# Altium integrated library Atmel Security Smart Card.IntLib: 140 symbols (part 1 of 4)
Pins are listed as number, name and electrical type; pins without a type are passive.

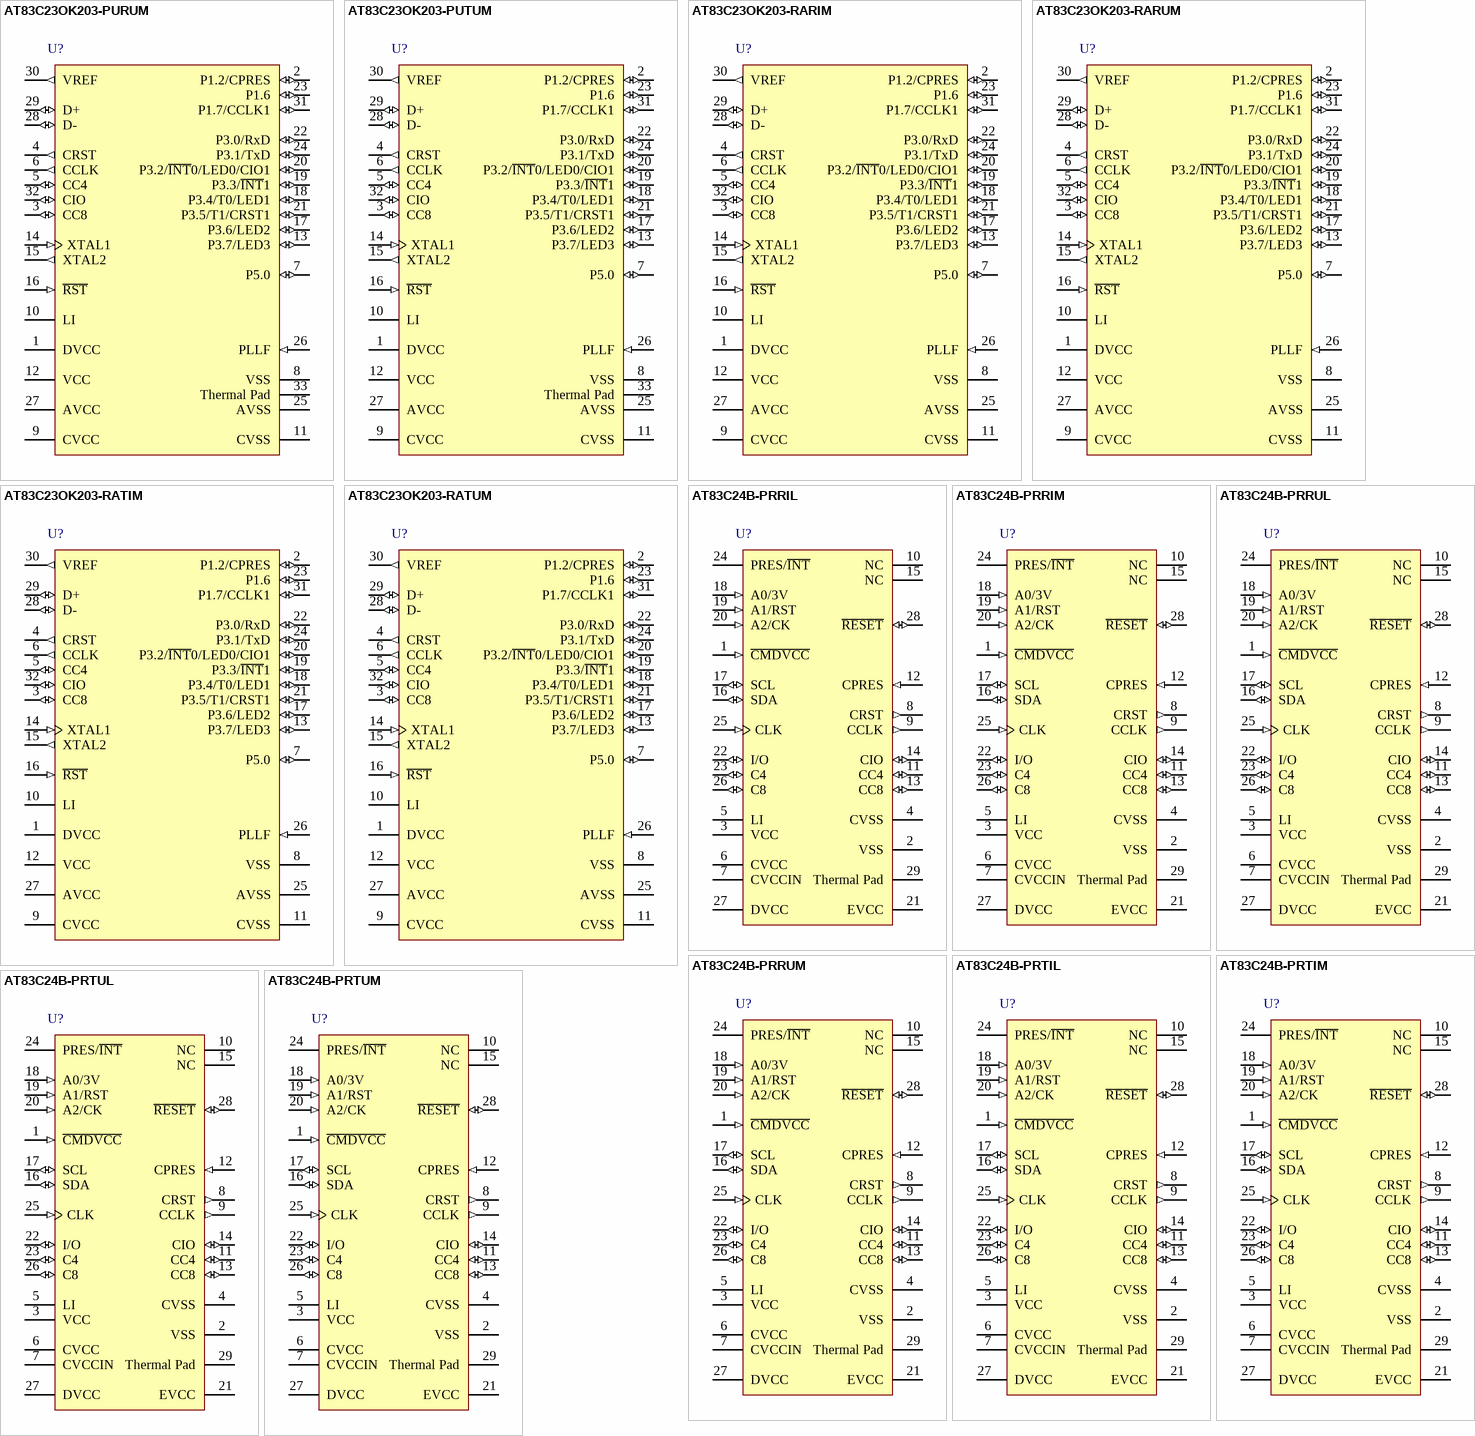
[diagram p0: symbols AT83C23OK203-PURUM to AT83C24B-PRTUM]

## AT83C23OK203-PURUM
designator U?
CardMan® Smart@Link Smart Card Interface, 32-Pin QFN Pkg, Industrial, Tape and Reel, Pb-Free; DatasheetVersion: revC, Mar-2007; PackageVersion: 26/10/2011; PackageReference: QFN32; PackageDescription: 32-Pin Quad Flat No-Lead, 7 x 7 mm Body, 0.65 mm Pitch; Code_JEDEC: MO-220VKKC; Code_IPC: QFN65P700X700-32V; ComponentLink1Description: Manufacturer URL; ComponentLink1URL: http://www.atmel.com/; ComponentLink2Description: Datasheet; ComponentLink2URL: http://www.atmel.com/dyn/resources/prod_documents/AT83C230K.pdf
footprint QFN32_N (QFN, 32-Leads, Body 7x7mm, Pitch 0.65mm, Thermal Pad 5.3x5.3mm, IPC Medium Density)
footprint QFN32_L (QFN, 32-Leads, Body 7x7mm, Pitch 0.65mm, Thermal Pad 5.3x5.3mm, IPC High Density)
footprint QFN32_M (QFN, 32-Leads, Body 7x7mm, Pitch 0.65mm, Thermal Pad 5.3x5.3mm, IPC Low Density)
pins: 1 DVCC (power), 2 P1.2/CPRES (io), 3 CC8 (io), 4 CRST (out), 5 CC4 (io), 6 CCLK (out), 7 P5.0 (io), 8 VSS (power), 9 CVCC (power), 10 LI (power), 11 CVSS (power), 12 VCC (power), 13 P3.7/LED3 (io), 14 XTAL1 (in), 15 XTAL2 (out), 16 ~{RST} (in), 17 P3.6/LED2 (io), 18 P3.4/T0/LED1 (io), 19 P3.3/~{INT}1 (io), 20 P3.2/~{INT}0/LED0/CIO1 (io), 21 P3.5/T1/CRST1 (io), 22 P3.0/RxD (io), 23 P1.6 (io), 24 P3.1/TxD (io), 25 AVSS (power), 26 PLLF (in), 27 AVCC (power), 28 D- (io), 29 D+ (io), 30 VREF (out), 31 P1.7/CCLK1 (io), 32 CIO (io), 33 Thermal Pad (power)

## AT83C23OK203-PUTUM
designator U?
CardMan® Smart@Link Smart Card Interface, 32-Pin QFN Pkg, Industrial, Tray, Pb-Free; DatasheetVersion: revC, Mar-2007; PackageVersion: 26/10/2011; PackageReference: QFN32; PackageDescription: 32-Pin Quad Flat No-Lead, 7 x 7 mm Body, 0.65 mm Pitch; Code_JEDEC: MO-220VKKC; Code_IPC: QFN65P700X700-32V; ComponentLink1Description: Manufacturer URL; ComponentLink1URL: http://www.atmel.com/; ComponentLink2Description: Datasheet; ComponentLink2URL: http://www.atmel.com/dyn/resources/prod_documents/AT83C230K.pdf
footprint QFN32_N (QFN, 32-Leads, Body 7x7mm, Pitch 0.65mm, Thermal Pad 5.3x5.3mm, IPC Medium Density)
footprint QFN32_L (QFN, 32-Leads, Body 7x7mm, Pitch 0.65mm, Thermal Pad 5.3x5.3mm, IPC High Density)
footprint QFN32_M (QFN, 32-Leads, Body 7x7mm, Pitch 0.65mm, Thermal Pad 5.3x5.3mm, IPC Low Density)
pins: 1 DVCC (power), 2 P1.2/CPRES (io), 3 CC8 (io), 4 CRST (out), 5 CC4 (io), 6 CCLK (out), 7 P5.0 (io), 8 VSS (power), 9 CVCC (power), 10 LI (power), 11 CVSS (power), 12 VCC (power), 13 P3.7/LED3 (io), 14 XTAL1 (in), 15 XTAL2 (out), 16 ~{RST} (in), 17 P3.6/LED2 (io), 18 P3.4/T0/LED1 (io), 19 P3.3/~{INT}1 (io), 20 P3.2/~{INT}0/LED0/CIO1 (io), 21 P3.5/T1/CRST1 (io), 22 P3.0/RxD (io), 23 P1.6 (io), 24 P3.1/TxD (io), 25 AVSS (power), 26 PLLF (in), 27 AVCC (power), 28 D- (io), 29 D+ (io), 30 VREF (out), 31 P1.7/CCLK1 (io), 32 CIO (io), 33 Thermal Pad (power)

## AT83C23OK203-RARIM
designator U?
CardMan® Smart@Link Smart Card Interface, 32-Pin QFP Pkg, Industrial, Tape and Reel; DatasheetVersion: revC, Mar-2007; PackageVersion: 1/03/2007; PackageReference: LQFP32; PackageDescription: 32-Lead Thin Profile Quad Flatpack, 7 x 7 x 1.4 mm Body,  0.8 mm Pitch; ComponentLink1Description: Manufacturer URL; ComponentLink1URL: http://www.atmel.com/; ComponentLink2Description: Datasheet; ComponentLink2URL: http://www.atmel.com/dyn/resources/prod_documents/AT83C230K.pdf
footprint LQFP32_N (Thin QFP, 32-Leads, Body 7x7mm, Pitch 0.8mm, IPC Medium Density)
footprint LQFP32_L (Thin QFP, 32-Leads, Body 7x7mm, Pitch 0.8mm, IPC High Density)
footprint LQFP32_M (Thin QFP, 32-Leads, Body 7x7mm, Pitch 0.8mm, IPC Low Density)
pins: 1 DVCC (power), 2 P1.2/CPRES (io), 3 CC8 (io), 4 CRST (out), 5 CC4 (io), 6 CCLK (out), 7 P5.0 (io), 8 VSS (power), 9 CVCC (power), 10 LI (power), 11 CVSS (power), 12 VCC (power), 13 P3.7/LED3 (io), 14 XTAL1 (in), 15 XTAL2 (out), 16 ~{RST} (in), 17 P3.6/LED2 (io), 18 P3.4/T0/LED1 (io), 19 P3.3/~{INT}1 (io), 20 P3.2/~{INT}0/LED0/CIO1 (io), 21 P3.5/T1/CRST1 (io), 22 P3.0/RxD (io), 23 P1.6 (io), 24 P3.1/TxD (io), 25 AVSS (power), 26 PLLF (in), 27 AVCC (power), 28 D- (io), 29 D+ (io), 30 VREF (out), 31 P1.7/CCLK1 (io), 32 CIO (io)

## AT83C23OK203-RARUM
designator U?
CardMan® Smart@Link Smart Card Interface, 32-Pin QFP Pkg, Industrial, Tape and Reel, Pb-Free; DatasheetVersion: revC, Mar-2007; PackageVersion: 1/03/2007; PackageReference: LQFP32; PackageDescription: 32-Lead Thin Profile Quad Flatpack, 7 x 7 x 1.4 mm Body,  0.8 mm Pitch; ComponentLink1Description: Manufacturer URL; ComponentLink1URL: http://www.atmel.com/; ComponentLink2Description: Datasheet; ComponentLink2URL: http://www.atmel.com/dyn/resources/prod_documents/AT83C230K.pdf
footprint LQFP32_N (Thin QFP, 32-Leads, Body 7x7mm, Pitch 0.8mm, IPC Medium Density)
footprint LQFP32_L (Thin QFP, 32-Leads, Body 7x7mm, Pitch 0.8mm, IPC High Density)
footprint LQFP32_M (Thin QFP, 32-Leads, Body 7x7mm, Pitch 0.8mm, IPC Low Density)
pins: 1 DVCC (power), 2 P1.2/CPRES (io), 3 CC8 (io), 4 CRST (out), 5 CC4 (io), 6 CCLK (out), 7 P5.0 (io), 8 VSS (power), 9 CVCC (power), 10 LI (power), 11 CVSS (power), 12 VCC (power), 13 P3.7/LED3 (io), 14 XTAL1 (in), 15 XTAL2 (out), 16 ~{RST} (in), 17 P3.6/LED2 (io), 18 P3.4/T0/LED1 (io), 19 P3.3/~{INT}1 (io), 20 P3.2/~{INT}0/LED0/CIO1 (io), 21 P3.5/T1/CRST1 (io), 22 P3.0/RxD (io), 23 P1.6 (io), 24 P3.1/TxD (io), 25 AVSS (power), 26 PLLF (in), 27 AVCC (power), 28 D- (io), 29 D+ (io), 30 VREF (out), 31 P1.7/CCLK1 (io), 32 CIO (io)

## AT83C23OK203-RATIM
designator U?
CardMan® Smart@Link Smart Card Interface, 32-Pin QFP Pkg, Industrial, Tray; DatasheetVersion: revC, Mar-2007; PackageVersion: 1/03/2007; PackageReference: LQFP32; PackageDescription: 32-Lead Thin Profile Quad Flatpack, 7 x 7 x 1.4 mm Body,  0.8 mm Pitch; ComponentLink1Description: Manufacturer URL; ComponentLink1URL: http://www.atmel.com/; ComponentLink2Description: Datasheet; ComponentLink2URL: http://www.atmel.com/dyn/resources/prod_documents/AT83C230K.pdf
footprint LQFP32_N (Thin QFP, 32-Leads, Body 7x7mm, Pitch 0.8mm, IPC Medium Density)
footprint LQFP32_L (Thin QFP, 32-Leads, Body 7x7mm, Pitch 0.8mm, IPC High Density)
footprint LQFP32_M (Thin QFP, 32-Leads, Body 7x7mm, Pitch 0.8mm, IPC Low Density)
pins: 1 DVCC (power), 2 P1.2/CPRES (io), 3 CC8 (io), 4 CRST (out), 5 CC4 (io), 6 CCLK (out), 7 P5.0 (io), 8 VSS (power), 9 CVCC (power), 10 LI (power), 11 CVSS (power), 12 VCC (power), 13 P3.7/LED3 (io), 14 XTAL1 (in), 15 XTAL2 (out), 16 ~{RST} (in), 17 P3.6/LED2 (io), 18 P3.4/T0/LED1 (io), 19 P3.3/~{INT}1 (io), 20 P3.2/~{INT}0/LED0/CIO1 (io), 21 P3.5/T1/CRST1 (io), 22 P3.0/RxD (io), 23 P1.6 (io), 24 P3.1/TxD (io), 25 AVSS (power), 26 PLLF (in), 27 AVCC (power), 28 D- (io), 29 D+ (io), 30 VREF (out), 31 P1.7/CCLK1 (io), 32 CIO (io)

## AT83C23OK203-RATUM
designator U?
CardMan® Smart@Link Smart Card Interface, 32-Pin QFP Pkg, Industrial, Tray, Pb-Free; DatasheetVersion: revC, Mar-2007; PackageVersion: 1/03/2007; PackageReference: LQFP32; PackageDescription: 32-Lead Thin Profile Quad Flatpack, 7 x 7 x 1.4 mm Body,  0.8 mm Pitch; ComponentLink1Description: Manufacturer URL; ComponentLink1URL: http://www.atmel.com/; ComponentLink2Description: Datasheet; ComponentLink2URL: http://www.atmel.com/dyn/resources/prod_documents/AT83C230K.pdf
footprint LQFP32_N (Thin QFP, 32-Leads, Body 7x7mm, Pitch 0.8mm, IPC Medium Density)
footprint LQFP32_L (Thin QFP, 32-Leads, Body 7x7mm, Pitch 0.8mm, IPC High Density)
footprint LQFP32_M (Thin QFP, 32-Leads, Body 7x7mm, Pitch 0.8mm, IPC Low Density)
pins: 1 DVCC (power), 2 P1.2/CPRES (io), 3 CC8 (io), 4 CRST (out), 5 CC4 (io), 6 CCLK (out), 7 P5.0 (io), 8 VSS (power), 9 CVCC (power), 10 LI (power), 11 CVSS (power), 12 VCC (power), 13 P3.7/LED3 (io), 14 XTAL1 (in), 15 XTAL2 (out), 16 ~{RST} (in), 17 P3.6/LED2 (io), 18 P3.4/T0/LED1 (io), 19 P3.3/~{INT}1 (io), 20 P3.2/~{INT}0/LED0/CIO1 (io), 21 P3.5/T1/CRST1 (io), 22 P3.0/RxD (io), 23 P1.6 (io), 24 P3.1/TxD (io), 25 AVSS (power), 26 PLLF (in), 27 AVCC (power), 28 D- (io), 29 D+ (io), 30 VREF (out), 31 P1.7/CCLK1 (io), 32 CIO (io)

## AT83C24B-PRRIL
designator U?
Smart Card Reader Interface with Power Management, 3V to 5.5V, 28-Pin QFN Pkg, Industrial, Tape and Reel; DatasheetVersion: revG, Jan-2007; PackageVersion: 1/01/2007; PackageReference: QFN28; PackageDescription: 28 Lead Quad Flat, 5 x 5 x 1.0 mm Body, 0.5mm Pitch; ComponentLink1Description: Manufacturer URL; ComponentLink1URL: http://www.atmel.com/; ComponentLink2Description: Datasheet; ComponentLink2URL: http://www.atmel.com/dyn/resources/prod_documents/Datasheet_AT83C24.pdf
footprint QFN28 (QFN, 28-Leads, Body 5x5mm, Pitch 0.5mm, Thermal Pad 3.7x3.7mm, Atmel Recommended)
pins: 1 ~{CMDVCC} (in), 2 VSS (power), 3 VCC (power), 4 CVSS (power), 5 LI (power), 6 CVCC (power), 7 CVCCIN (power), 8 CRST (out), 9 CCLK (out), 10 NC, 11 CC4 (io), 12 CPRES (in), 13 CC8 (io), 14 CIO (io), 15 NC, 16 SDA (io), 17 SCL (io), 18 A0/3V (in), 19 A1/RST (in), 20 A2/CK (in), 21 EVCC (power), 22 I/O (io), 23 C4 (io), 24 PRES/~{INT} (oc), 25 CLK (in), 26 C8 (io), 27 DVCC (power), 28 ~{RESET} (io), 29 Thermal Pad (power)

## AT83C24B-PRRIM
designator U?
Smart Card Reader Interface with Power Management, 4V to 5.5V, 28-Pin QFN Pkg, Industrial, Tape and Reel; DatasheetVersion: revG, Jan-2007; PackageVersion: 1/01/2007; PackageReference: QFN28; PackageDescription: 28 Lead Quad Flat, 5 x 5 x 1.0 mm Body, 0.5mm Pitch; ComponentLink1Description: Manufacturer URL; ComponentLink1URL: http://www.atmel.com/; ComponentLink2Description: Datasheet; ComponentLink2URL: http://www.atmel.com/dyn/resources/prod_documents/Datasheet_AT83C24.pdf
footprint QFN28 (QFN, 28-Leads, Body 5x5mm, Pitch 0.5mm, Thermal Pad 3.7x3.7mm, Atmel Recommended)
pins: 1 ~{CMDVCC} (in), 2 VSS (power), 3 VCC (power), 4 CVSS (power), 5 LI (power), 6 CVCC (power), 7 CVCCIN (power), 8 CRST (out), 9 CCLK (out), 10 NC, 11 CC4 (io), 12 CPRES (in), 13 CC8 (io), 14 CIO (io), 15 NC, 16 SDA (io), 17 SCL (io), 18 A0/3V (in), 19 A1/RST (in), 20 A2/CK (in), 21 EVCC (power), 22 I/O (io), 23 C4 (io), 24 PRES/~{INT} (oc), 25 CLK (in), 26 C8 (io), 27 DVCC (power), 28 ~{RESET} (io), 29 Thermal Pad (power)

## AT83C24B-PRRUL
designator U?
Smart Card Reader Interface with Power Management, 3V to 5.5V, 28-Pin QFN Pkg, Industrial, Tape and Reel, Pb-Free; DatasheetVersion: revG, Jan-2007; PackageVersion: 1/01/2007; PackageReference: QFN28; PackageDescription: 28 Lead Quad Flat, 5 x 5 x 1.0 mm Body, 0.5mm Pitch; ComponentLink1Description: Manufacturer URL; ComponentLink1URL: http://www.atmel.com/; ComponentLink2Description: Datasheet; ComponentLink2URL: http://www.atmel.com/dyn/resources/prod_documents/Datasheet_AT83C24.pdf
footprint QFN28 (QFN, 28-Leads, Body 5x5mm, Pitch 0.5mm, Thermal Pad 3.7x3.7mm, Atmel Recommended)
pins: 1 ~{CMDVCC} (in), 2 VSS (power), 3 VCC (power), 4 CVSS (power), 5 LI (power), 6 CVCC (power), 7 CVCCIN (power), 8 CRST (out), 9 CCLK (out), 10 NC, 11 CC4 (io), 12 CPRES (in), 13 CC8 (io), 14 CIO (io), 15 NC, 16 SDA (io), 17 SCL (io), 18 A0/3V (in), 19 A1/RST (in), 20 A2/CK (in), 21 EVCC (power), 22 I/O (io), 23 C4 (io), 24 PRES/~{INT} (oc), 25 CLK (in), 26 C8 (io), 27 DVCC (power), 28 ~{RESET} (io), 29 Thermal Pad (power)

## AT83C24B-PRRUM
designator U?
Smart Card Reader Interface with Power Management, 4V to 5.5V, 28-Pin QFN Pkg, Industrial, Tape and Reel, Pb-Free; DatasheetVersion: revG, Jan-2007; PackageVersion: 1/01/2007; PackageReference: QFN28; PackageDescription: 28 Lead Quad Flat, 5 x 5 x 1.0 mm Body, 0.5mm Pitch; ComponentLink1Description: Manufacturer URL; ComponentLink1URL: http://www.atmel.com/; ComponentLink2Description: Datasheet; ComponentLink2URL: http://www.atmel.com/dyn/resources/prod_documents/Datasheet_AT83C24.pdf
footprint QFN28 (QFN, 28-Leads, Body 5x5mm, Pitch 0.5mm, Thermal Pad 3.7x3.7mm, Atmel Recommended)
pins: 1 ~{CMDVCC} (in), 2 VSS (power), 3 VCC (power), 4 CVSS (power), 5 LI (power), 6 CVCC (power), 7 CVCCIN (power), 8 CRST (out), 9 CCLK (out), 10 NC, 11 CC4 (io), 12 CPRES (in), 13 CC8 (io), 14 CIO (io), 15 NC, 16 SDA (io), 17 SCL (io), 18 A0/3V (in), 19 A1/RST (in), 20 A2/CK (in), 21 EVCC (power), 22 I/O (io), 23 C4 (io), 24 PRES/~{INT} (oc), 25 CLK (in), 26 C8 (io), 27 DVCC (power), 28 ~{RESET} (io), 29 Thermal Pad (power)

## AT83C24B-PRTIL
designator U?
Smart Card Reader Interface with Power Management, 3V to 5.5V, 28-Pin QFN Pkg, Industrial, Tray; DatasheetVersion: revG, Jan-2007; PackageVersion: 1/01/2007; PackageReference: QFN28; PackageDescription: 28 Lead Quad Flat, 5 x 5 x 1.0 mm Body, 0.5mm Pitch; ComponentLink1Description: Manufacturer URL; ComponentLink1URL: http://www.atmel.com/; ComponentLink2Description: Datasheet; ComponentLink2URL: http://www.atmel.com/dyn/resources/prod_documents/Datasheet_AT83C24.pdf
footprint QFN28 (QFN, 28-Leads, Body 5x5mm, Pitch 0.5mm, Thermal Pad 3.7x3.7mm, Atmel Recommended)
pins: 1 ~{CMDVCC} (in), 2 VSS (power), 3 VCC (power), 4 CVSS (power), 5 LI (power), 6 CVCC (power), 7 CVCCIN (power), 8 CRST (out), 9 CCLK (out), 10 NC, 11 CC4 (io), 12 CPRES (in), 13 CC8 (io), 14 CIO (io), 15 NC, 16 SDA (io), 17 SCL (io), 18 A0/3V (in), 19 A1/RST (in), 20 A2/CK (in), 21 EVCC (power), 22 I/O (io), 23 C4 (io), 24 PRES/~{INT} (oc), 25 CLK (in), 26 C8 (io), 27 DVCC (power), 28 ~{RESET} (io), 29 Thermal Pad (power)

## AT83C24B-PRTIM
designator U?
Smart Card Reader Interface with Power Management, 4V to 5.5V, 28-Pin QFN Pkg, Industrial, Tray; DatasheetVersion: revG, Jan-2007; PackageVersion: 1/01/2007; PackageReference: QFN28; PackageDescription: 28 Lead Quad Flat, 5 x 5 x 1.0 mm Body, 0.5mm Pitch; ComponentLink1Description: Manufacturer URL; ComponentLink1URL: http://www.atmel.com/; ComponentLink2Description: Datasheet; ComponentLink2URL: http://www.atmel.com/dyn/resources/prod_documents/Datasheet_AT83C24.pdf
footprint QFN28 (QFN, 28-Leads, Body 5x5mm, Pitch 0.5mm, Thermal Pad 3.7x3.7mm, Atmel Recommended)
pins: 1 ~{CMDVCC} (in), 2 VSS (power), 3 VCC (power), 4 CVSS (power), 5 LI (power), 6 CVCC (power), 7 CVCCIN (power), 8 CRST (out), 9 CCLK (out), 10 NC, 11 CC4 (io), 12 CPRES (in), 13 CC8 (io), 14 CIO (io), 15 NC, 16 SDA (io), 17 SCL (io), 18 A0/3V (in), 19 A1/RST (in), 20 A2/CK (in), 21 EVCC (power), 22 I/O (io), 23 C4 (io), 24 PRES/~{INT} (oc), 25 CLK (in), 26 C8 (io), 27 DVCC (power), 28 ~{RESET} (io), 29 Thermal Pad (power)

## AT83C24B-PRTUL
designator U?
Smart Card Reader Interface with Power Management, 3V to 5.5V, 28-Pin QFN Pkg, Industrial, Tray, Pb-Free; DatasheetVersion: revG, Jan-2007; PackageVersion: 1/01/2007; PackageReference: QFN28; PackageDescription: 28 Lead Quad Flat, 5 x 5 x 1.0 mm Body, 0.5mm Pitch; ComponentLink1Description: Manufacturer URL; ComponentLink1URL: http://www.atmel.com/; ComponentLink2Description: Datasheet; ComponentLink2URL: http://www.atmel.com/dyn/resources/prod_documents/Datasheet_AT83C24.pdf
footprint QFN28 (QFN, 28-Leads, Body 5x5mm, Pitch 0.5mm, Thermal Pad 3.7x3.7mm, Atmel Recommended)
pins: 1 ~{CMDVCC} (in), 2 VSS (power), 3 VCC (power), 4 CVSS (power), 5 LI (power), 6 CVCC (power), 7 CVCCIN (power), 8 CRST (out), 9 CCLK (out), 10 NC, 11 CC4 (io), 12 CPRES (in), 13 CC8 (io), 14 CIO (io), 15 NC, 16 SDA (io), 17 SCL (io), 18 A0/3V (in), 19 A1/RST (in), 20 A2/CK (in), 21 EVCC (power), 22 I/O (io), 23 C4 (io), 24 PRES/~{INT} (oc), 25 CLK (in), 26 C8 (io), 27 DVCC (power), 28 ~{RESET} (io), 29 Thermal Pad (power)

## AT83C24B-PRTUM
designator U?
Smart Card Reader Interface with Power Management, 4V to 5.5V, 28-Pin QFN Pkg, Industrial, Tray, Pb-Free; DatasheetVersion: revG, Jan-2007; PackageVersion: 1/01/2007; PackageReference: QFN28; PackageDescription: 28 Lead Quad Flat, 5 x 5 x 1.0 mm Body, 0.5mm Pitch; ComponentLink1Description: Manufacturer URL; ComponentLink1URL: http://www.atmel.com/; ComponentLink2Description: Datasheet; ComponentLink2URL: http://www.atmel.com/dyn/resources/prod_documents/Datasheet_AT83C24.pdf
footprint QFN28 (QFN, 28-Leads, Body 5x5mm, Pitch 0.5mm, Thermal Pad 3.7x3.7mm, Atmel Recommended)
pins: 1 ~{CMDVCC} (in), 2 VSS (power), 3 VCC (power), 4 CVSS (power), 5 LI (power), 6 CVCC (power), 7 CVCCIN (power), 8 CRST (out), 9 CCLK (out), 10 NC, 11 CC4 (io), 12 CPRES (in), 13 CC8 (io), 14 CIO (io), 15 NC, 16 SDA (io), 17 SCL (io), 18 A0/3V (in), 19 A1/RST (in), 20 A2/CK (in), 21 EVCC (power), 22 I/O (io), 23 C4 (io), 24 PRES/~{INT} (oc), 25 CLK (in), 26 C8 (io), 27 DVCC (power), 28 ~{RESET} (io), 29 Thermal Pad (power)

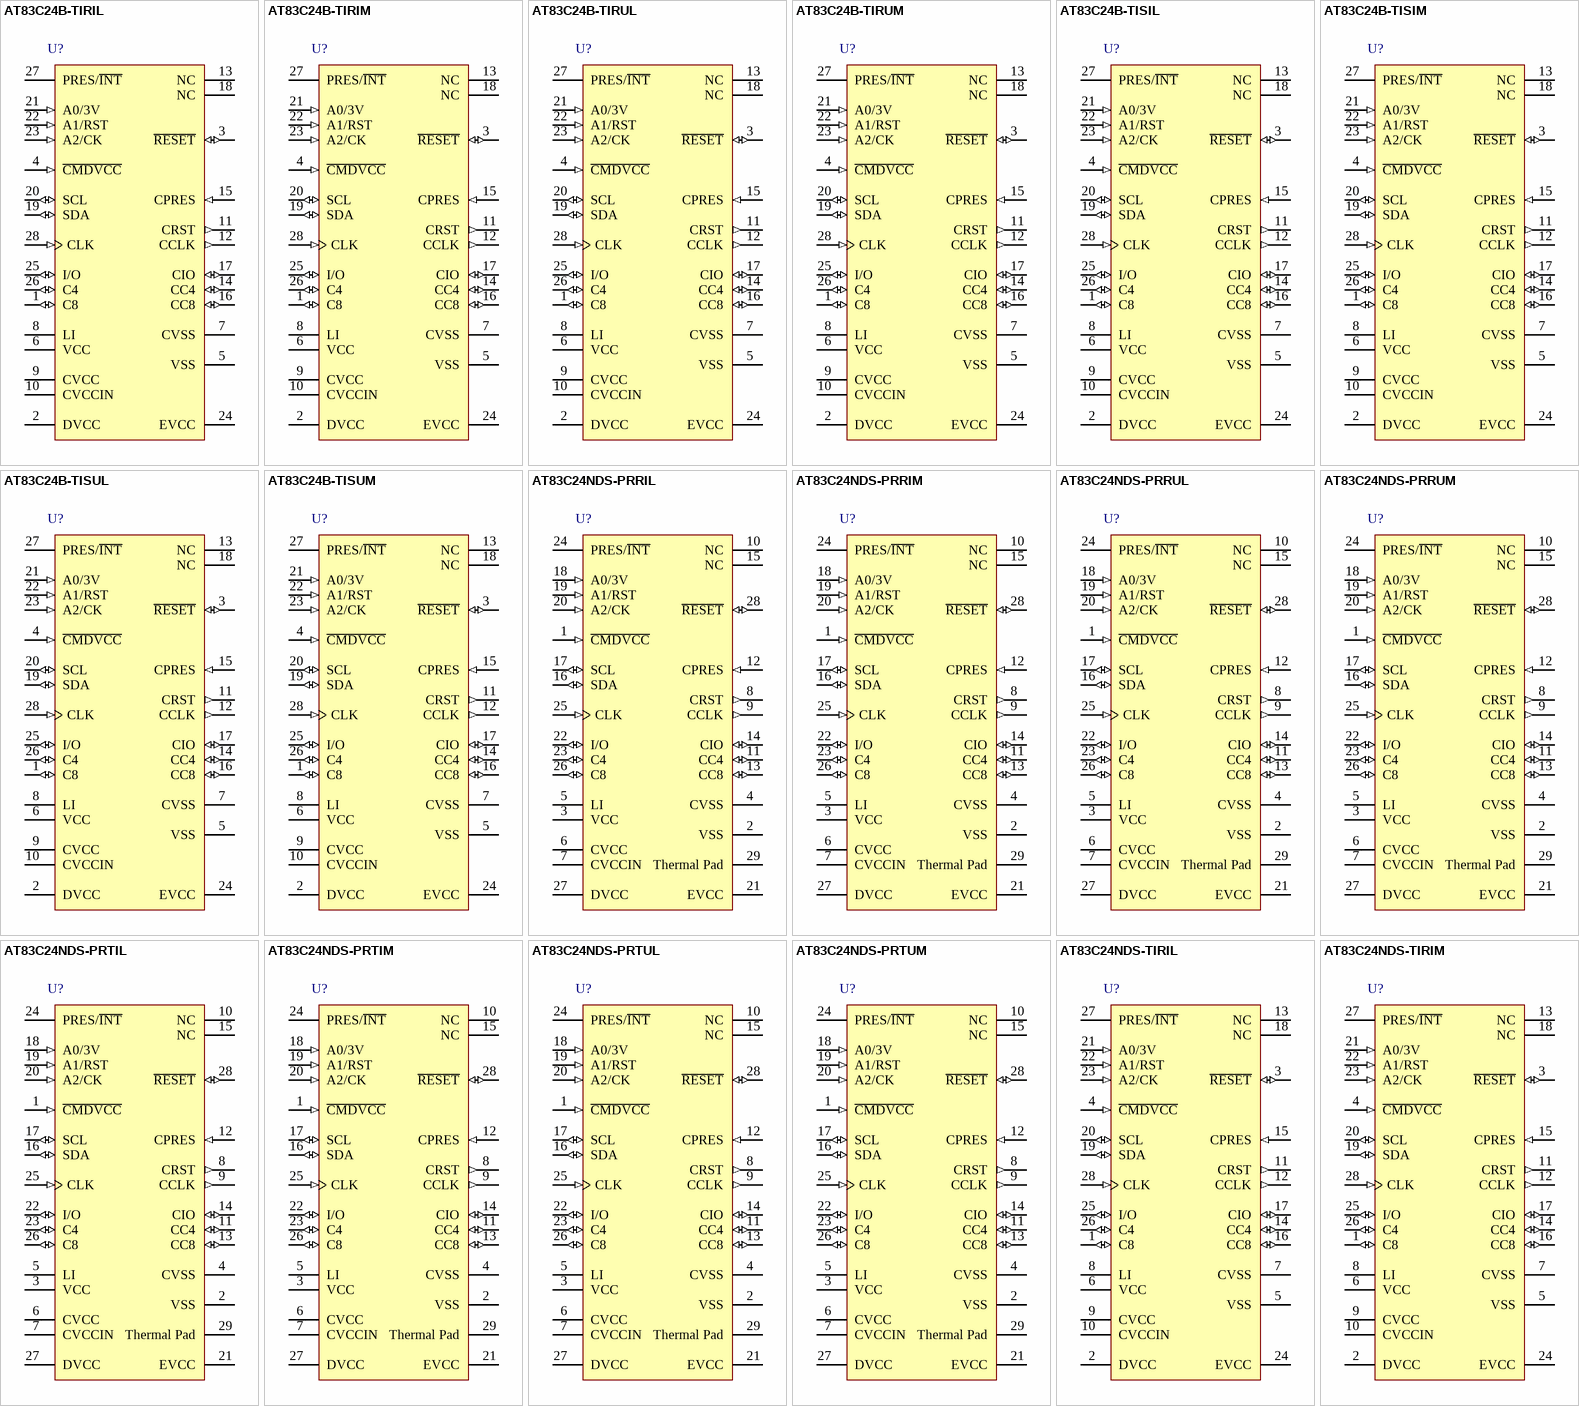
[diagram p1: symbols AT83C24B-TIRIL to AT83C24NDS-TIRIM]

## AT83C24B-TIRIL
designator U?
Smart Card Reader Interface with Power Management, 3V to 5.5V, 28-Pin SOIC Pkg, Industrial, Tape and Reel; DatasheetVersion: revG, Jan-2007; PackageVersion: 1/01/2007; PackageReference: SO28; PackageDescription: 28-Pin Small Outline Package ,17.9 x 7.5 mm Body, 1.27 mm Pitch; ComponentLink1Description: Manufacturer URL; ComponentLink1URL: http://www.atmel.com/; ComponentLink2Description: Datasheet; ComponentLink2URL: http://www.atmel.com/dyn/resources/prod_documents/Datasheet_AT83C24.pdf
footprint SO28_N (SOIC, 28-Leads, Body 17.9x7.5mm, Pitch 1.27mm, IPC Medium Density)
footprint SO28_L (SOIC, 28-Leads, Body 17.9x7.5mm, Pitch 1.27mm, IPC High Density)
footprint SO28_M (SOIC, 28-Leads, Body 17.9x7.5mm, Pitch 1.27mm, IPC Low Density)
pins: 1 C8 (io), 2 DVCC (power), 3 ~{RESET} (io), 4 ~{CMDVCC} (in), 5 VSS (power), 6 VCC (power), 7 CVSS (power), 8 LI (power), 9 CVCC (power), 10 CVCCIN (power), 11 CRST (out), 12 CCLK (out), 13 NC, 14 CC4 (io), 15 CPRES (in), 16 CC8 (io), 17 CIO (io), 18 NC, 19 SDA (io), 20 SCL (io), 21 A0/3V (in), 22 A1/RST (in), 23 A2/CK (in), 24 EVCC (power), 25 I/O (io), 26 C4 (io), 27 PRES/~{INT} (oc), 28 CLK (in)

## AT83C24B-TIRIM
designator U?
Smart Card Reader Interface with Power Management, 4V to 5.5V, 28-Pin SOIC Pkg, Industrial, Tape and Reel; DatasheetVersion: revG, Jan-2007; PackageVersion: 1/01/2007; PackageReference: SO28; PackageDescription: 28-Pin Small Outline Package ,17.9 x 7.5 mm Body, 1.27 mm Pitch; ComponentLink1Description: Manufacturer URL; ComponentLink1URL: http://www.atmel.com/; ComponentLink2Description: Datasheet; ComponentLink2URL: http://www.atmel.com/dyn/resources/prod_documents/Datasheet_AT83C24.pdf
footprint SO28_N (SOIC, 28-Leads, Body 17.9x7.5mm, Pitch 1.27mm, IPC Medium Density)
footprint SO28_L (SOIC, 28-Leads, Body 17.9x7.5mm, Pitch 1.27mm, IPC High Density)
footprint SO28_M (SOIC, 28-Leads, Body 17.9x7.5mm, Pitch 1.27mm, IPC Low Density)
pins: 1 C8 (io), 2 DVCC (power), 3 ~{RESET} (io), 4 ~{CMDVCC} (in), 5 VSS (power), 6 VCC (power), 7 CVSS (power), 8 LI (power), 9 CVCC (power), 10 CVCCIN (power), 11 CRST (out), 12 CCLK (out), 13 NC, 14 CC4 (io), 15 CPRES (in), 16 CC8 (io), 17 CIO (io), 18 NC, 19 SDA (io), 20 SCL (io), 21 A0/3V (in), 22 A1/RST (in), 23 A2/CK (in), 24 EVCC (power), 25 I/O (io), 26 C4 (io), 27 PRES/~{INT} (oc), 28 CLK (in)

## AT83C24B-TIRUL
designator U?
Smart Card Reader Interface with Power Management, 3V to 5.5V, 28-Pin SOIC Pkg, Industrial, Tape and Reel, Pb-Free; DatasheetVersion: revG, Jan-2007; PackageVersion: 1/01/2007; PackageReference: SO28; PackageDescription: 28-Pin Small Outline Package ,17.9 x 7.5 mm Body, 1.27 mm Pitch; ComponentLink1Description: Manufacturer URL; ComponentLink1URL: http://www.atmel.com/; ComponentLink2Description: Datasheet; ComponentLink2URL: http://www.atmel.com/dyn/resources/prod_documents/Datasheet_AT83C24.pdf
footprint SO28_N (SOIC, 28-Leads, Body 17.9x7.5mm, Pitch 1.27mm, IPC Medium Density)
footprint SO28_L (SOIC, 28-Leads, Body 17.9x7.5mm, Pitch 1.27mm, IPC High Density)
footprint SO28_M (SOIC, 28-Leads, Body 17.9x7.5mm, Pitch 1.27mm, IPC Low Density)
pins: 1 C8 (io), 2 DVCC (power), 3 ~{RESET} (io), 4 ~{CMDVCC} (in), 5 VSS (power), 6 VCC (power), 7 CVSS (power), 8 LI (power), 9 CVCC (power), 10 CVCCIN (power), 11 CRST (out), 12 CCLK (out), 13 NC, 14 CC4 (io), 15 CPRES (in), 16 CC8 (io), 17 CIO (io), 18 NC, 19 SDA (io), 20 SCL (io), 21 A0/3V (in), 22 A1/RST (in), 23 A2/CK (in), 24 EVCC (power), 25 I/O (io), 26 C4 (io), 27 PRES/~{INT} (oc), 28 CLK (in)

## AT83C24B-TIRUM
designator U?
Smart Card Reader Interface with Power Management, 4V to 5.5V, 28-Pin SOIC Pkg, Industrial, Tape and Reel, Pb-Free; DatasheetVersion: revG, Jan-2007; PackageVersion: 1/01/2007; PackageReference: SO28; PackageDescription: 28-Pin Small Outline Package ,17.9 x 7.5 mm Body, 1.27 mm Pitch; ComponentLink1Description: Manufacturer URL; ComponentLink1URL: http://www.atmel.com/; ComponentLink2Description: Datasheet; ComponentLink2URL: http://www.atmel.com/dyn/resources/prod_documents/Datasheet_AT83C24.pdf
footprint SO28_N (SOIC, 28-Leads, Body 17.9x7.5mm, Pitch 1.27mm, IPC Medium Density)
footprint SO28_L (SOIC, 28-Leads, Body 17.9x7.5mm, Pitch 1.27mm, IPC High Density)
footprint SO28_M (SOIC, 28-Leads, Body 17.9x7.5mm, Pitch 1.27mm, IPC Low Density)
pins: 1 C8 (io), 2 DVCC (power), 3 ~{RESET} (io), 4 ~{CMDVCC} (in), 5 VSS (power), 6 VCC (power), 7 CVSS (power), 8 LI (power), 9 CVCC (power), 10 CVCCIN (power), 11 CRST (out), 12 CCLK (out), 13 NC, 14 CC4 (io), 15 CPRES (in), 16 CC8 (io), 17 CIO (io), 18 NC, 19 SDA (io), 20 SCL (io), 21 A0/3V (in), 22 A1/RST (in), 23 A2/CK (in), 24 EVCC (power), 25 I/O (io), 26 C4 (io), 27 PRES/~{INT} (oc), 28 CLK (in)

## AT83C24B-TISIL
designator U?
Smart Card Reader Interface with Power Management, 3V to 5.5V, 28-Pin SOIC Pkg, Industrial, Stick; DatasheetVersion: revG, Jan-2007; PackageVersion: 1/01/2007; PackageReference: SO28; PackageDescription: 28-Pin Small Outline Package ,17.9 x 7.5 mm Body, 1.27 mm Pitch; ComponentLink1Description: Manufacturer URL; ComponentLink1URL: http://www.atmel.com/; ComponentLink2Description: Datasheet; ComponentLink2URL: http://www.atmel.com/dyn/resources/prod_documents/Datasheet_AT83C24.pdf
footprint SO28_N (SOIC, 28-Leads, Body 17.9x7.5mm, Pitch 1.27mm, IPC Medium Density)
footprint SO28_L (SOIC, 28-Leads, Body 17.9x7.5mm, Pitch 1.27mm, IPC High Density)
footprint SO28_M (SOIC, 28-Leads, Body 17.9x7.5mm, Pitch 1.27mm, IPC Low Density)
pins: 1 C8 (io), 2 DVCC (power), 3 ~{RESET} (io), 4 ~{CMDVCC} (in), 5 VSS (power), 6 VCC (power), 7 CVSS (power), 8 LI (power), 9 CVCC (power), 10 CVCCIN (power), 11 CRST (out), 12 CCLK (out), 13 NC, 14 CC4 (io), 15 CPRES (in), 16 CC8 (io), 17 CIO (io), 18 NC, 19 SDA (io), 20 SCL (io), 21 A0/3V (in), 22 A1/RST (in), 23 A2/CK (in), 24 EVCC (power), 25 I/O (io), 26 C4 (io), 27 PRES/~{INT} (oc), 28 CLK (in)

## AT83C24B-TISIM
designator U?
Smart Card Reader Interface with Power Management, 4V to 5.5V, 28-Pin SOIC Pkg, Industrial, Stick; DatasheetVersion: revG, Jan-2007; PackageVersion: 1/01/2007; PackageReference: SO28; PackageDescription: 28-Pin Small Outline Package ,17.9 x 7.5 mm Body, 1.27 mm Pitch; ComponentLink1Description: Manufacturer URL; ComponentLink1URL: http://www.atmel.com/; ComponentLink2Description: Datasheet; ComponentLink2URL: http://www.atmel.com/dyn/resources/prod_documents/Datasheet_AT83C24.pdf
footprint SO28_N (SOIC, 28-Leads, Body 17.9x7.5mm, Pitch 1.27mm, IPC Medium Density)
footprint SO28_L (SOIC, 28-Leads, Body 17.9x7.5mm, Pitch 1.27mm, IPC High Density)
footprint SO28_M (SOIC, 28-Leads, Body 17.9x7.5mm, Pitch 1.27mm, IPC Low Density)
pins: 1 C8 (io), 2 DVCC (power), 3 ~{RESET} (io), 4 ~{CMDVCC} (in), 5 VSS (power), 6 VCC (power), 7 CVSS (power), 8 LI (power), 9 CVCC (power), 10 CVCCIN (power), 11 CRST (out), 12 CCLK (out), 13 NC, 14 CC4 (io), 15 CPRES (in), 16 CC8 (io), 17 CIO (io), 18 NC, 19 SDA (io), 20 SCL (io), 21 A0/3V (in), 22 A1/RST (in), 23 A2/CK (in), 24 EVCC (power), 25 I/O (io), 26 C4 (io), 27 PRES/~{INT} (oc), 28 CLK (in)

## AT83C24B-TISUL
designator U?
Smart Card Reader Interface with Power Management, 3V to 5.5V, 28-Pin SOIC Pkg, Industrial, Stick, Pb-Free; DatasheetVersion: revG, Jan-2007; PackageVersion: 1/01/2007; PackageReference: SO28; PackageDescription: 28-Pin Small Outline Package ,17.9 x 7.5 mm Body, 1.27 mm Pitch; ComponentLink1Description: Manufacturer URL; ComponentLink1URL: http://www.atmel.com/; ComponentLink2Description: Datasheet; ComponentLink2URL: http://www.atmel.com/dyn/resources/prod_documents/Datasheet_AT83C24.pdf
footprint SO28_N (SOIC, 28-Leads, Body 17.9x7.5mm, Pitch 1.27mm, IPC Medium Density)
footprint SO28_L (SOIC, 28-Leads, Body 17.9x7.5mm, Pitch 1.27mm, IPC High Density)
footprint SO28_M (SOIC, 28-Leads, Body 17.9x7.5mm, Pitch 1.27mm, IPC Low Density)
pins: 1 C8 (io), 2 DVCC (power), 3 ~{RESET} (io), 4 ~{CMDVCC} (in), 5 VSS (power), 6 VCC (power), 7 CVSS (power), 8 LI (power), 9 CVCC (power), 10 CVCCIN (power), 11 CRST (out), 12 CCLK (out), 13 NC, 14 CC4 (io), 15 CPRES (in), 16 CC8 (io), 17 CIO (io), 18 NC, 19 SDA (io), 20 SCL (io), 21 A0/3V (in), 22 A1/RST (in), 23 A2/CK (in), 24 EVCC (power), 25 I/O (io), 26 C4 (io), 27 PRES/~{INT} (oc), 28 CLK (in)

## AT83C24B-TISUM
designator U?
Smart Card Reader Interface with Power Management, 4V to 5.5V, 28-Pin SOIC Pkg, Industrial, Stick, Pb-Free; DatasheetVersion: revG, Jan-2007; PackageVersion: 1/01/2007; PackageReference: SO28; PackageDescription: 28-Pin Small Outline Package ,17.9 x 7.5 mm Body, 1.27 mm Pitch; ComponentLink1Description: Manufacturer URL; ComponentLink1URL: http://www.atmel.com/; ComponentLink2Description: Datasheet; ComponentLink2URL: http://www.atmel.com/dyn/resources/prod_documents/Datasheet_AT83C24.pdf
footprint SO28_N (SOIC, 28-Leads, Body 17.9x7.5mm, Pitch 1.27mm, IPC Medium Density)
footprint SO28_L (SOIC, 28-Leads, Body 17.9x7.5mm, Pitch 1.27mm, IPC High Density)
footprint SO28_M (SOIC, 28-Leads, Body 17.9x7.5mm, Pitch 1.27mm, IPC Low Density)
pins: 1 C8 (io), 2 DVCC (power), 3 ~{RESET} (io), 4 ~{CMDVCC} (in), 5 VSS (power), 6 VCC (power), 7 CVSS (power), 8 LI (power), 9 CVCC (power), 10 CVCCIN (power), 11 CRST (out), 12 CCLK (out), 13 NC, 14 CC4 (io), 15 CPRES (in), 16 CC8 (io), 17 CIO (io), 18 NC, 19 SDA (io), 20 SCL (io), 21 A0/3V (in), 22 A1/RST (in), 23 A2/CK (in), 24 EVCC (power), 25 I/O (io), 26 C4 (io), 27 PRES/~{INT} (oc), 28 CLK (in)

## AT83C24NDS-PRRIL
designator U?
Smart Card Reader Interface with Power Management, 3V to 5.5V, 28-Pin QFN Pkg, Industrial, Tape and Reel; DatasheetVersion: revG, Jan-2007; PackageVersion: 1/01/2007; PackageReference: QFN28; PackageDescription: 28 Lead Quad Flat, 5 x 5 x 1.0 mm Body, 0.5mm Pitch; ComponentLink1Description: Manufacturer URL; ComponentLink1URL: http://www.atmel.com/; ComponentLink2Description: Datasheet; ComponentLink2URL: http://www.atmel.com/dyn/resources/prod_documents/Datasheet_AT83C24.pdf
footprint QFN28 (QFN, 28-Leads, Body 5x5mm, Pitch 0.5mm, Thermal Pad 3.7x3.7mm, Atmel Recommended)
pins: 1 ~{CMDVCC} (in), 2 VSS (power), 3 VCC (power), 4 CVSS (power), 5 LI (power), 6 CVCC (power), 7 CVCCIN (power), 8 CRST (out), 9 CCLK (out), 10 NC, 11 CC4 (io), 12 CPRES (in), 13 CC8 (io), 14 CIO (io), 15 NC, 16 SDA (io), 17 SCL (io), 18 A0/3V (in), 19 A1/RST (in), 20 A2/CK (in), 21 EVCC (power), 22 I/O (io), 23 C4 (io), 24 PRES/~{INT} (oc), 25 CLK (in), 26 C8 (io), 27 DVCC (power), 28 ~{RESET} (io), 29 Thermal Pad (power)

## AT83C24NDS-PRRIM
designator U?
Smart Card Reader Interface with Power Management, 4V to 5.5V, 28-Pin QFN Pkg, Industrial, Tape and Reel; DatasheetVersion: revG, Jan-2007; PackageVersion: 1/01/2007; PackageReference: QFN28; PackageDescription: 28 Lead Quad Flat, 5 x 5 x 1.0 mm Body, 0.5mm Pitch; ComponentLink1Description: Manufacturer URL; ComponentLink1URL: http://www.atmel.com/; ComponentLink2Description: Datasheet; ComponentLink2URL: http://www.atmel.com/dyn/resources/prod_documents/Datasheet_AT83C24.pdf
footprint QFN28 (QFN, 28-Leads, Body 5x5mm, Pitch 0.5mm, Thermal Pad 3.7x3.7mm, Atmel Recommended)
pins: 1 ~{CMDVCC} (in), 2 VSS (power), 3 VCC (power), 4 CVSS (power), 5 LI (power), 6 CVCC (power), 7 CVCCIN (power), 8 CRST (out), 9 CCLK (out), 10 NC, 11 CC4 (io), 12 CPRES (in), 13 CC8 (io), 14 CIO (io), 15 NC, 16 SDA (io), 17 SCL (io), 18 A0/3V (in), 19 A1/RST (in), 20 A2/CK (in), 21 EVCC (power), 22 I/O (io), 23 C4 (io), 24 PRES/~{INT} (oc), 25 CLK (in), 26 C8 (io), 27 DVCC (power), 28 ~{RESET} (io), 29 Thermal Pad (power)

## AT83C24NDS-PRRUL
designator U?
Smart Card Reader Interface with Power Management, 3V to 5.5V, 28-Pin QFN Pkg, Industrial, Tape and Reel, Pb-Free; DatasheetVersion: revG, Jan-2007; PackageVersion: 1/01/2007; PackageReference: QFN28; PackageDescription: 28 Lead Quad Flat, 5 x 5 x 1.0 mm Body, 0.5mm Pitch; ComponentLink1Description: Manufacturer URL; ComponentLink1URL: http://www.atmel.com/; ComponentLink2Description: Datasheet; ComponentLink2URL: http://www.atmel.com/dyn/resources/prod_documents/Datasheet_AT83C24.pdf
footprint QFN28 (QFN, 28-Leads, Body 5x5mm, Pitch 0.5mm, Thermal Pad 3.7x3.7mm, Atmel Recommended)
pins: 1 ~{CMDVCC} (in), 2 VSS (power), 3 VCC (power), 4 CVSS (power), 5 LI (power), 6 CVCC (power), 7 CVCCIN (power), 8 CRST (out), 9 CCLK (out), 10 NC, 11 CC4 (io), 12 CPRES (in), 13 CC8 (io), 14 CIO (io), 15 NC, 16 SDA (io), 17 SCL (io), 18 A0/3V (in), 19 A1/RST (in), 20 A2/CK (in), 21 EVCC (power), 22 I/O (io), 23 C4 (io), 24 PRES/~{INT} (oc), 25 CLK (in), 26 C8 (io), 27 DVCC (power), 28 ~{RESET} (io), 29 Thermal Pad (power)

## AT83C24NDS-PRRUM
designator U?
Smart Card Reader Interface with Power Management, 4V to 5.5V, 28-Pin QFN Pkg, Industrial, Tape and Reel, Pb-Free; DatasheetVersion: revG, Jan-2007; PackageVersion: 1/01/2007; PackageReference: QFN28; PackageDescription: 28 Lead Quad Flat, 5 x 5 x 1.0 mm Body, 0.5mm Pitch; ComponentLink1Description: Manufacturer URL; ComponentLink1URL: http://www.atmel.com/; ComponentLink2Description: Datasheet; ComponentLink2URL: http://www.atmel.com/dyn/resources/prod_documents/Datasheet_AT83C24.pdf
footprint QFN28 (QFN, 28-Leads, Body 5x5mm, Pitch 0.5mm, Thermal Pad 3.7x3.7mm, Atmel Recommended)
pins: 1 ~{CMDVCC} (in), 2 VSS (power), 3 VCC (power), 4 CVSS (power), 5 LI (power), 6 CVCC (power), 7 CVCCIN (power), 8 CRST (out), 9 CCLK (out), 10 NC, 11 CC4 (io), 12 CPRES (in), 13 CC8 (io), 14 CIO (io), 15 NC, 16 SDA (io), 17 SCL (io), 18 A0/3V (in), 19 A1/RST (in), 20 A2/CK (in), 21 EVCC (power), 22 I/O (io), 23 C4 (io), 24 PRES/~{INT} (oc), 25 CLK (in), 26 C8 (io), 27 DVCC (power), 28 ~{RESET} (io), 29 Thermal Pad (power)

## AT83C24NDS-PRTIL
designator U?
Smart Card Reader Interface with Power Management, 3V to 5.5V, 28-Pin QFN Pkg, Industrial, Tray; DatasheetVersion: revG, Jan-2007; PackageVersion: 1/01/2007; PackageReference: QFN28; PackageDescription: 28 Lead Quad Flat, 5 x 5 x 1.0 mm Body, 0.5mm Pitch; ComponentLink1Description: Manufacturer URL; ComponentLink1URL: http://www.atmel.com/; ComponentLink2Description: Datasheet; ComponentLink2URL: http://www.atmel.com/dyn/resources/prod_documents/Datasheet_AT83C24.pdf
footprint QFN28 (QFN, 28-Leads, Body 5x5mm, Pitch 0.5mm, Thermal Pad 3.7x3.7mm, Atmel Recommended)
pins: 1 ~{CMDVCC} (in), 2 VSS (power), 3 VCC (power), 4 CVSS (power), 5 LI (power), 6 CVCC (power), 7 CVCCIN (power), 8 CRST (out), 9 CCLK (out), 10 NC, 11 CC4 (io), 12 CPRES (in), 13 CC8 (io), 14 CIO (io), 15 NC, 16 SDA (io), 17 SCL (io), 18 A0/3V (in), 19 A1/RST (in), 20 A2/CK (in), 21 EVCC (power), 22 I/O (io), 23 C4 (io), 24 PRES/~{INT} (oc), 25 CLK (in), 26 C8 (io), 27 DVCC (power), 28 ~{RESET} (io), 29 Thermal Pad (power)

## AT83C24NDS-PRTIM
designator U?
Smart Card Reader Interface with Power Management, 4V to 5.5V, 28-Pin QFN Pkg, Industrial, Tray; DatasheetVersion: revG, Jan-2007; PackageVersion: 1/01/2007; PackageReference: QFN28; PackageDescription: 28 Lead Quad Flat, 5 x 5 x 1.0 mm Body, 0.5mm Pitch; ComponentLink1Description: Manufacturer URL; ComponentLink1URL: http://www.atmel.com/; ComponentLink2Description: Datasheet; ComponentLink2URL: http://www.atmel.com/dyn/resources/prod_documents/Datasheet_AT83C24.pdf
footprint QFN28 (QFN, 28-Leads, Body 5x5mm, Pitch 0.5mm, Thermal Pad 3.7x3.7mm, Atmel Recommended)
pins: 1 ~{CMDVCC} (in), 2 VSS (power), 3 VCC (power), 4 CVSS (power), 5 LI (power), 6 CVCC (power), 7 CVCCIN (power), 8 CRST (out), 9 CCLK (out), 10 NC, 11 CC4 (io), 12 CPRES (in), 13 CC8 (io), 14 CIO (io), 15 NC, 16 SDA (io), 17 SCL (io), 18 A0/3V (in), 19 A1/RST (in), 20 A2/CK (in), 21 EVCC (power), 22 I/O (io), 23 C4 (io), 24 PRES/~{INT} (oc), 25 CLK (in), 26 C8 (io), 27 DVCC (power), 28 ~{RESET} (io), 29 Thermal Pad (power)

## AT83C24NDS-PRTUL
designator U?
Smart Card Reader Interface with Power Management, 3V to 5.5V, 28-Pin QFN Pkg, Industrial, Tray, Pb-Free; DatasheetVersion: revG, Jan-2007; PackageVersion: 1/01/2007; PackageReference: QFN28; PackageDescription: 28 Lead Quad Flat, 5 x 5 x 1.0 mm Body, 0.5mm Pitch; ComponentLink1Description: Manufacturer URL; ComponentLink1URL: http://www.atmel.com/; ComponentLink2Description: Datasheet; ComponentLink2URL: http://www.atmel.com/dyn/resources/prod_documents/Datasheet_AT83C24.pdf
footprint QFN28 (QFN, 28-Leads, Body 5x5mm, Pitch 0.5mm, Thermal Pad 3.7x3.7mm, Atmel Recommended)
pins: 1 ~{CMDVCC} (in), 2 VSS (power), 3 VCC (power), 4 CVSS (power), 5 LI (power), 6 CVCC (power), 7 CVCCIN (power), 8 CRST (out), 9 CCLK (out), 10 NC, 11 CC4 (io), 12 CPRES (in), 13 CC8 (io), 14 CIO (io), 15 NC, 16 SDA (io), 17 SCL (io), 18 A0/3V (in), 19 A1/RST (in), 20 A2/CK (in), 21 EVCC (power), 22 I/O (io), 23 C4 (io), 24 PRES/~{INT} (oc), 25 CLK (in), 26 C8 (io), 27 DVCC (power), 28 ~{RESET} (io), 29 Thermal Pad (power)

## AT83C24NDS-PRTUM
designator U?
Smart Card Reader Interface with Power Management, 4V to 5.5V, 28-Pin QFN Pkg, Industrial, Tray, Pb-Free; DatasheetVersion: revG, Jan-2007; PackageVersion: 1/01/2007; PackageReference: QFN28; PackageDescription: 28 Lead Quad Flat, 5 x 5 x 1.0 mm Body, 0.5mm Pitch; ComponentLink1Description: Manufacturer URL; ComponentLink1URL: http://www.atmel.com/; ComponentLink2Description: Datasheet; ComponentLink2URL: http://www.atmel.com/dyn/resources/prod_documents/Datasheet_AT83C24.pdf
footprint QFN28 (QFN, 28-Leads, Body 5x5mm, Pitch 0.5mm, Thermal Pad 3.7x3.7mm, Atmel Recommended)
pins: 1 ~{CMDVCC} (in), 2 VSS (power), 3 VCC (power), 4 CVSS (power), 5 LI (power), 6 CVCC (power), 7 CVCCIN (power), 8 CRST (out), 9 CCLK (out), 10 NC, 11 CC4 (io), 12 CPRES (in), 13 CC8 (io), 14 CIO (io), 15 NC, 16 SDA (io), 17 SCL (io), 18 A0/3V (in), 19 A1/RST (in), 20 A2/CK (in), 21 EVCC (power), 22 I/O (io), 23 C4 (io), 24 PRES/~{INT} (oc), 25 CLK (in), 26 C8 (io), 27 DVCC (power), 28 ~{RESET} (io), 29 Thermal Pad (power)

## AT83C24NDS-TIRIL
designator U?
Smart Card Reader Interface with Power Management, 3V to 5.5V, 28-Pin SOIC Pkg, Industrial, Tape and Reel; DatasheetVersion: revG, Jan-2007; PackageVersion: 1/01/2007; PackageReference: SO28; PackageDescription: 28-Pin Small Outline Package ,17.9 x 7.5 mm Body, 1.27 mm Pitch; ComponentLink1Description: Manufacturer URL; ComponentLink1URL: http://www.atmel.com/; ComponentLink2Description: Datasheet; ComponentLink2URL: http://www.atmel.com/dyn/resources/prod_documents/Datasheet_AT83C24.pdf
footprint SO28_N (SOIC, 28-Leads, Body 17.9x7.5mm, Pitch 1.27mm, IPC Medium Density)
footprint SO28_L (SOIC, 28-Leads, Body 17.9x7.5mm, Pitch 1.27mm, IPC High Density)
footprint SO28_M (SOIC, 28-Leads, Body 17.9x7.5mm, Pitch 1.27mm, IPC Low Density)
pins: 1 C8 (io), 2 DVCC (power), 3 ~{RESET} (io), 4 ~{CMDVCC} (in), 5 VSS (power), 6 VCC (power), 7 CVSS (power), 8 LI (power), 9 CVCC (power), 10 CVCCIN (power), 11 CRST (out), 12 CCLK (out), 13 NC, 14 CC4 (io), 15 CPRES (in), 16 CC8 (io), 17 CIO (io), 18 NC, 19 SDA (io), 20 SCL (io), 21 A0/3V (in), 22 A1/RST (in), 23 A2/CK (in), 24 EVCC (power), 25 I/O (io), 26 C4 (io), 27 PRES/~{INT} (oc), 28 CLK (in)

## AT83C24NDS-TIRIM
designator U?
Smart Card Reader Interface with Power Management, 4V to 5.5V, 28-Pin SOIC Pkg, Industrial, Tape and Reel; DatasheetVersion: revG, Jan-2007; PackageVersion: 1/01/2007; PackageReference: SO28; PackageDescription: 28-Pin Small Outline Package ,17.9 x 7.5 mm Body, 1.27 mm Pitch; ComponentLink1Description: Manufacturer URL; ComponentLink1URL: http://www.atmel.com/; ComponentLink2Description: Datasheet; ComponentLink2URL: http://www.atmel.com/dyn/resources/prod_documents/Datasheet_AT83C24.pdf
footprint SO28_N (SOIC, 28-Leads, Body 17.9x7.5mm, Pitch 1.27mm, IPC Medium Density)
footprint SO28_L (SOIC, 28-Leads, Body 17.9x7.5mm, Pitch 1.27mm, IPC High Density)
footprint SO28_M (SOIC, 28-Leads, Body 17.9x7.5mm, Pitch 1.27mm, IPC Low Density)
pins: 1 C8 (io), 2 DVCC (power), 3 ~{RESET} (io), 4 ~{CMDVCC} (in), 5 VSS (power), 6 VCC (power), 7 CVSS (power), 8 LI (power), 9 CVCC (power), 10 CVCCIN (power), 11 CRST (out), 12 CCLK (out), 13 NC, 14 CC4 (io), 15 CPRES (in), 16 CC8 (io), 17 CIO (io), 18 NC, 19 SDA (io), 20 SCL (io), 21 A0/3V (in), 22 A1/RST (in), 23 A2/CK (in), 24 EVCC (power), 25 I/O (io), 26 C4 (io), 27 PRES/~{INT} (oc), 28 CLK (in)

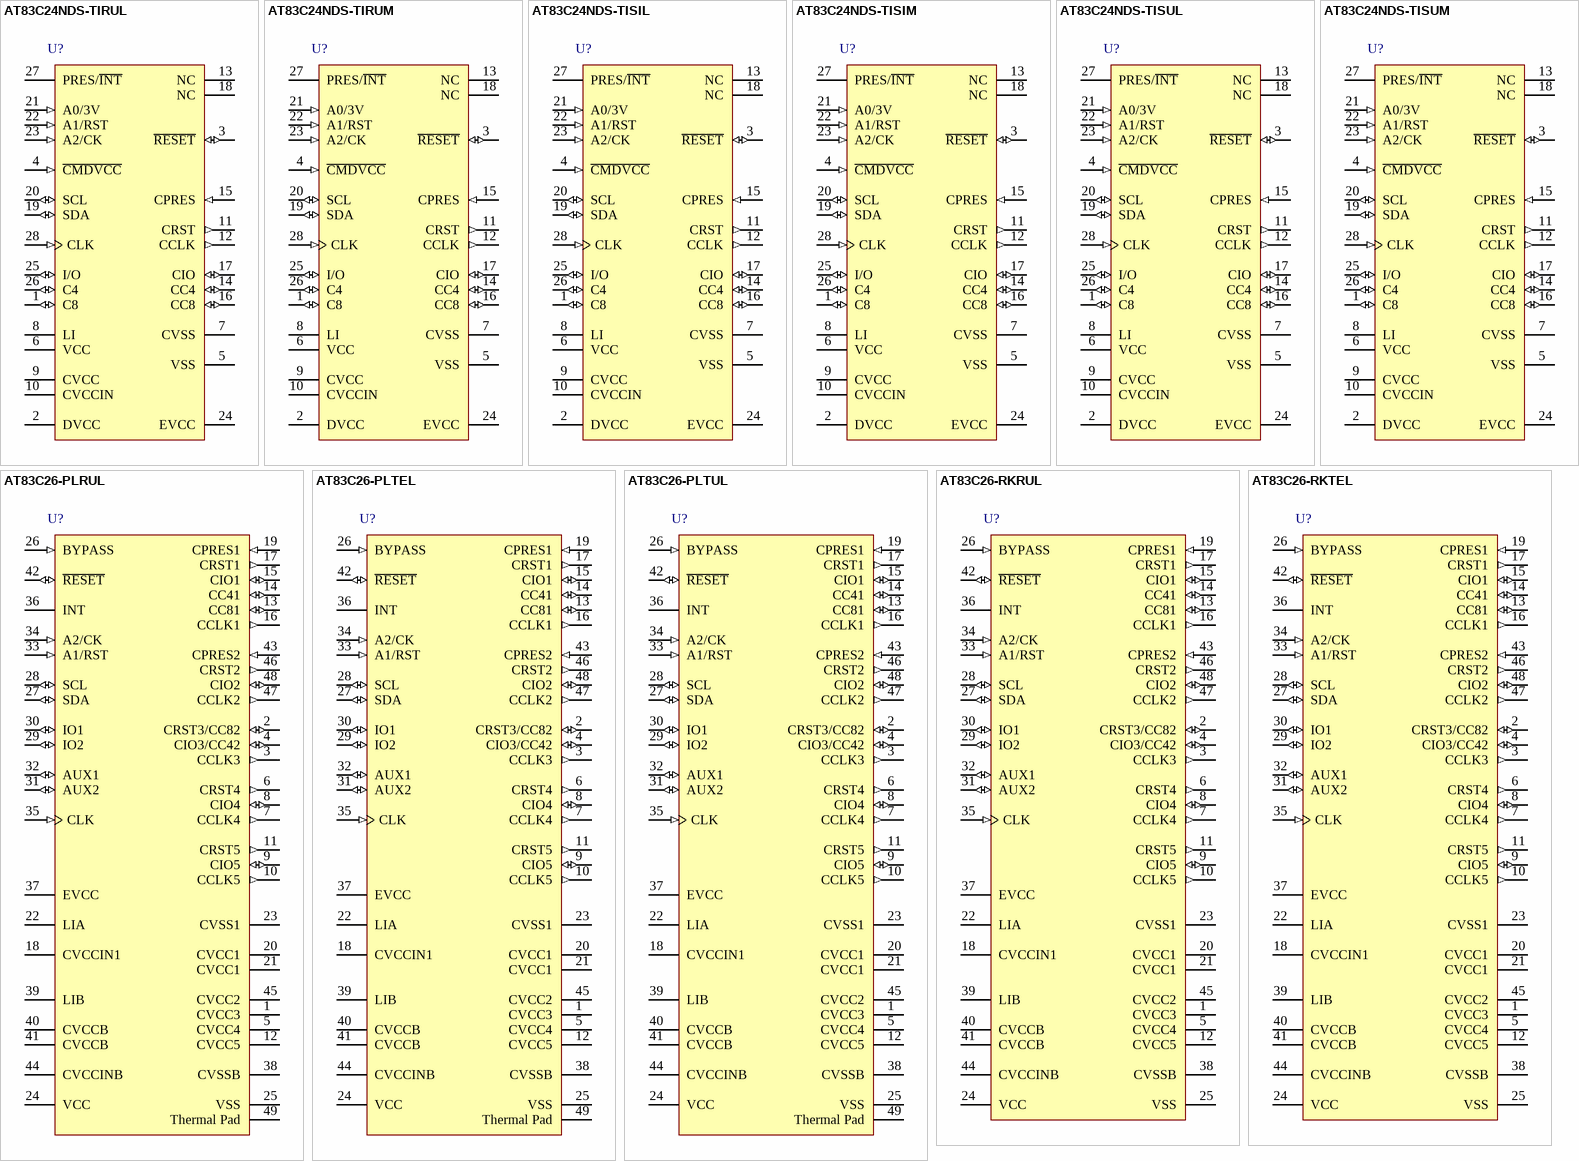
[diagram p2: symbols AT83C24NDS-TIRUL to AT83C26-RKTEL]

## AT83C24NDS-TIRUL
designator U?
Smart Card Reader Interface with Power Management, 3V to 5.5V, 28-Pin SOIC Pkg, Industrial, Tape and Reel, Pb-Free; DatasheetVersion: revG, Jan-2007; PackageVersion: 1/01/2007; PackageReference: SO28; PackageDescription: 28-Pin Small Outline Package ,17.9 x 7.5 mm Body, 1.27 mm Pitch; ComponentLink1Description: Manufacturer URL; ComponentLink1URL: http://www.atmel.com/; ComponentLink2Description: Datasheet; ComponentLink2URL: http://www.atmel.com/dyn/resources/prod_documents/Datasheet_AT83C24.pdf
footprint SO28_N (SOIC, 28-Leads, Body 17.9x7.5mm, Pitch 1.27mm, IPC Medium Density)
footprint SO28_L (SOIC, 28-Leads, Body 17.9x7.5mm, Pitch 1.27mm, IPC High Density)
footprint SO28_M (SOIC, 28-Leads, Body 17.9x7.5mm, Pitch 1.27mm, IPC Low Density)
pins: 1 C8 (io), 2 DVCC (power), 3 ~{RESET} (io), 4 ~{CMDVCC} (in), 5 VSS (power), 6 VCC (power), 7 CVSS (power), 8 LI (power), 9 CVCC (power), 10 CVCCIN (power), 11 CRST (out), 12 CCLK (out), 13 NC, 14 CC4 (io), 15 CPRES (in), 16 CC8 (io), 17 CIO (io), 18 NC, 19 SDA (io), 20 SCL (io), 21 A0/3V (in), 22 A1/RST (in), 23 A2/CK (in), 24 EVCC (power), 25 I/O (io), 26 C4 (io), 27 PRES/~{INT} (oc), 28 CLK (in)

## AT83C24NDS-TIRUM
designator U?
Smart Card Reader Interface with Power Management, 4V to 5.5V, 28-Pin SOIC Pkg, Industrial, Tape and Reel, Pb-Free; DatasheetVersion: revG, Jan-2007; PackageVersion: 1/01/2007; PackageReference: SO28; PackageDescription: 28-Pin Small Outline Package ,17.9 x 7.5 mm Body, 1.27 mm Pitch; ComponentLink1Description: Manufacturer URL; ComponentLink1URL: http://www.atmel.com/; ComponentLink2Description: Datasheet; ComponentLink2URL: http://www.atmel.com/dyn/resources/prod_documents/Datasheet_AT83C24.pdf
footprint SO28_N (SOIC, 28-Leads, Body 17.9x7.5mm, Pitch 1.27mm, IPC Medium Density)
footprint SO28_L (SOIC, 28-Leads, Body 17.9x7.5mm, Pitch 1.27mm, IPC High Density)
footprint SO28_M (SOIC, 28-Leads, Body 17.9x7.5mm, Pitch 1.27mm, IPC Low Density)
pins: 1 C8 (io), 2 DVCC (power), 3 ~{RESET} (io), 4 ~{CMDVCC} (in), 5 VSS (power), 6 VCC (power), 7 CVSS (power), 8 LI (power), 9 CVCC (power), 10 CVCCIN (power), 11 CRST (out), 12 CCLK (out), 13 NC, 14 CC4 (io), 15 CPRES (in), 16 CC8 (io), 17 CIO (io), 18 NC, 19 SDA (io), 20 SCL (io), 21 A0/3V (in), 22 A1/RST (in), 23 A2/CK (in), 24 EVCC (power), 25 I/O (io), 26 C4 (io), 27 PRES/~{INT} (oc), 28 CLK (in)

## AT83C24NDS-TISIL
designator U?
Smart Card Reader Interface with Power Management, 3V to 5.5V, 28-Pin SOIC Pkg, Industrial, Stick; DatasheetVersion: revG, Jan-2007; PackageVersion: 1/01/2007; PackageReference: SO28; PackageDescription: 28-Pin Small Outline Package ,17.9 x 7.5 mm Body, 1.27 mm Pitch; ComponentLink1Description: Manufacturer URL; ComponentLink1URL: http://www.atmel.com/; ComponentLink2Description: Datasheet; ComponentLink2URL: http://www.atmel.com/dyn/resources/prod_documents/Datasheet_AT83C24.pdf
footprint SO28_N (SOIC, 28-Leads, Body 17.9x7.5mm, Pitch 1.27mm, IPC Medium Density)
footprint SO28_L (SOIC, 28-Leads, Body 17.9x7.5mm, Pitch 1.27mm, IPC High Density)
footprint SO28_M (SOIC, 28-Leads, Body 17.9x7.5mm, Pitch 1.27mm, IPC Low Density)
pins: 1 C8 (io), 2 DVCC (power), 3 ~{RESET} (io), 4 ~{CMDVCC} (in), 5 VSS (power), 6 VCC (power), 7 CVSS (power), 8 LI (power), 9 CVCC (power), 10 CVCCIN (power), 11 CRST (out), 12 CCLK (out), 13 NC, 14 CC4 (io), 15 CPRES (in), 16 CC8 (io), 17 CIO (io), 18 NC, 19 SDA (io), 20 SCL (io), 21 A0/3V (in), 22 A1/RST (in), 23 A2/CK (in), 24 EVCC (power), 25 I/O (io), 26 C4 (io), 27 PRES/~{INT} (oc), 28 CLK (in)

## AT83C24NDS-TISIM
designator U?
Smart Card Reader Interface with Power Management, 4V to 5.5V, 28-Pin SOIC Pkg, Industrial, Stick; DatasheetVersion: revG, Jan-2007; PackageVersion: 1/01/2007; PackageReference: SO28; PackageDescription: 28-Pin Small Outline Package ,17.9 x 7.5 mm Body, 1.27 mm Pitch; ComponentLink1Description: Manufacturer URL; ComponentLink1URL: http://www.atmel.com/; ComponentLink2Description: Datasheet; ComponentLink2URL: http://www.atmel.com/dyn/resources/prod_documents/Datasheet_AT83C24.pdf
footprint SO28_N (SOIC, 28-Leads, Body 17.9x7.5mm, Pitch 1.27mm, IPC Medium Density)
footprint SO28_L (SOIC, 28-Leads, Body 17.9x7.5mm, Pitch 1.27mm, IPC High Density)
footprint SO28_M (SOIC, 28-Leads, Body 17.9x7.5mm, Pitch 1.27mm, IPC Low Density)
pins: 1 C8 (io), 2 DVCC (power), 3 ~{RESET} (io), 4 ~{CMDVCC} (in), 5 VSS (power), 6 VCC (power), 7 CVSS (power), 8 LI (power), 9 CVCC (power), 10 CVCCIN (power), 11 CRST (out), 12 CCLK (out), 13 NC, 14 CC4 (io), 15 CPRES (in), 16 CC8 (io), 17 CIO (io), 18 NC, 19 SDA (io), 20 SCL (io), 21 A0/3V (in), 22 A1/RST (in), 23 A2/CK (in), 24 EVCC (power), 25 I/O (io), 26 C4 (io), 27 PRES/~{INT} (oc), 28 CLK (in)

## AT83C24NDS-TISUL
designator U?
Smart Card Reader Interface with Power Management, 3V to 5.5V, 28-Pin SOIC Pkg, Industrial, Stick, Pb-Free; DatasheetVersion: revG, Jan-2007; PackageVersion: 1/01/2007; PackageReference: SO28; PackageDescription: 28-Pin Small Outline Package ,17.9 x 7.5 mm Body, 1.27 mm Pitch; ComponentLink1Description: Manufacturer URL; ComponentLink1URL: http://www.atmel.com/; ComponentLink2Description: Datasheet; ComponentLink2URL: http://www.atmel.com/dyn/resources/prod_documents/Datasheet_AT83C24.pdf
footprint SO28_N (SOIC, 28-Leads, Body 17.9x7.5mm, Pitch 1.27mm, IPC Medium Density)
footprint SO28_L (SOIC, 28-Leads, Body 17.9x7.5mm, Pitch 1.27mm, IPC High Density)
footprint SO28_M (SOIC, 28-Leads, Body 17.9x7.5mm, Pitch 1.27mm, IPC Low Density)
pins: 1 C8 (io), 2 DVCC (power), 3 ~{RESET} (io), 4 ~{CMDVCC} (in), 5 VSS (power), 6 VCC (power), 7 CVSS (power), 8 LI (power), 9 CVCC (power), 10 CVCCIN (power), 11 CRST (out), 12 CCLK (out), 13 NC, 14 CC4 (io), 15 CPRES (in), 16 CC8 (io), 17 CIO (io), 18 NC, 19 SDA (io), 20 SCL (io), 21 A0/3V (in), 22 A1/RST (in), 23 A2/CK (in), 24 EVCC (power), 25 I/O (io), 26 C4 (io), 27 PRES/~{INT} (oc), 28 CLK (in)

## AT83C24NDS-TISUM
designator U?
Smart Card Reader Interface with Power Management, 4V to 5.5V, 28-Pin SOIC Pkg, Industrial, Stick, Pb-Free; DatasheetVersion: revG, Jan-2007; PackageVersion: 1/01/2007; PackageReference: SO28; PackageDescription: 28-Pin Small Outline Package ,17.9 x 7.5 mm Body, 1.27 mm Pitch; ComponentLink1Description: Manufacturer URL; ComponentLink1URL: http://www.atmel.com/; ComponentLink2Description: Datasheet; ComponentLink2URL: http://www.atmel.com/dyn/resources/prod_documents/Datasheet_AT83C24.pdf
footprint SO28_N (SOIC, 28-Leads, Body 17.9x7.5mm, Pitch 1.27mm, IPC Medium Density)
footprint SO28_L (SOIC, 28-Leads, Body 17.9x7.5mm, Pitch 1.27mm, IPC High Density)
footprint SO28_M (SOIC, 28-Leads, Body 17.9x7.5mm, Pitch 1.27mm, IPC Low Density)
pins: 1 C8 (io), 2 DVCC (power), 3 ~{RESET} (io), 4 ~{CMDVCC} (in), 5 VSS (power), 6 VCC (power), 7 CVSS (power), 8 LI (power), 9 CVCC (power), 10 CVCCIN (power), 11 CRST (out), 12 CCLK (out), 13 NC, 14 CC4 (io), 15 CPRES (in), 16 CC8 (io), 17 CIO (io), 18 NC, 19 SDA (io), 20 SCL (io), 21 A0/3V (in), 22 A1/RST (in), 23 A2/CK (in), 24 EVCC (power), 25 I/O (io), 26 C4 (io), 27 PRES/~{INT} (oc), 28 CLK (in)

## AT83C26-PLRUL
designator U?
Multiple Smart Card Reader Interface With Power Management, Industrial, 48-Pin QFN Pkg, Tape and Reel, Pb-Free; DatasheetVersion: revD, Feb-2007; PackageVersion: 29/03/2011; PackageReference: VQFN48; PackageDescription: 48-Pin Quad Flat No-Lead, Punched, 7 x 7 x 0.9 mm Body, 0.5 mm Pitch, Exposed Pad; Code_JEDEC: MO-220; ComponentLink1Description: Manufacturer URL; ComponentLink1URL: http://www.atmel.com/; ComponentLink2Description: Datasheet; ComponentLink2URL: http://www.atmel.com/dyn/resources/prod_documents/doc7511.pdf
footprint VQFN48_N (QFN, 48-Leads, Body 7x7mm, Pitch 0.5mm, Thermal Pad 5.3x5.3mm, IPC Medium Density)
footprint VQFN48_L (QFN, 48-Leads, Body 7x7mm, Pitch 0.5mm, Thermal Pad 5.3x5.3mm, IPC High Density)
footprint VQFN48_M (QFN, 48-Leads, Body 7x7mm, Pitch 0.5mm, Thermal Pad 5.3x5.3mm, IPC Low Density)
pins: 1 CVCC3 (power), 2 CRST3/CC82 (io), 3 CCLK3 (out), 4 CIO3/CC42 (io), 5 CVCC4 (power), 6 CRST4 (out), 7 CCLK4 (out), 8 CIO4 (io), 9 CIO5 (io), 10 CCLK5 (out), 11 CRST5 (out), 12 CVCC5 (power), 13 CC81 (io), 14 CC41 (io), 15 CIO1 (io), 16 CCLK1 (out), 17 CRST1 (out), 18 CVCCIN1 (power), 19 CPRES1 (in), 20 CVCC1 (power), 21 CVCC1 (power), 22 LIA (power), 23 CVSS1 (power), 24 VCC (power), 25 VSS (power), 26 BYPASS (in), 27 SDA (io), 28 SCL (io), 29 IO2 (io), 30 IO1 (io), 31 AUX2 (io), 32 AUX1 (io), 33 A1/RST (in), 34 A2/CK (in), 35 CLK (in), 36 INT, 37 EVCC (power), 38 CVSSB (power), 39 LIB (power), 40 CVCCB (power), 41 CVCCB (power), 42 ~{RESET} (io), 43 CPRES2 (in), 44 CVCCINB (power), 45 CVCC2 (power), 46 CRST2 (out), 47 CCLK2 (out), 48 CIO2 (io), 49 Thermal Pad (power)

## AT83C26-PLTEL
designator U?
Multiple Smart Card Reader Interface With Power Management, 25 degC, 48-Pin QFN Pkg, Tray; DatasheetVersion: revD, Feb-2007; PackageVersion: 29/03/2011; PackageReference: VQFN48; PackageDescription: 48-Pin Quad Flat No-Lead, Punched, 7 x 7 x 0.9 mm Body, 0.5 mm Pitch, Exposed Pad; Code_JEDEC: MO-220; ComponentLink1Description: Manufacturer URL; ComponentLink1URL: http://www.atmel.com/; ComponentLink2Description: Datasheet; ComponentLink2URL: http://www.atmel.com/dyn/resources/prod_documents/doc7511.pdf
footprint VQFN48_N (QFN, 48-Leads, Body 7x7mm, Pitch 0.5mm, Thermal Pad 5.3x5.3mm, IPC Medium Density)
footprint VQFN48_L (QFN, 48-Leads, Body 7x7mm, Pitch 0.5mm, Thermal Pad 5.3x5.3mm, IPC High Density)
footprint VQFN48_M (QFN, 48-Leads, Body 7x7mm, Pitch 0.5mm, Thermal Pad 5.3x5.3mm, IPC Low Density)
pins: 1 CVCC3 (power), 2 CRST3/CC82 (io), 3 CCLK3 (out), 4 CIO3/CC42 (io), 5 CVCC4 (power), 6 CRST4 (out), 7 CCLK4 (out), 8 CIO4 (io), 9 CIO5 (io), 10 CCLK5 (out), 11 CRST5 (out), 12 CVCC5 (power), 13 CC81 (io), 14 CC41 (io), 15 CIO1 (io), 16 CCLK1 (out), 17 CRST1 (out), 18 CVCCIN1 (power), 19 CPRES1 (in), 20 CVCC1 (power), 21 CVCC1 (power), 22 LIA (power), 23 CVSS1 (power), 24 VCC (power), 25 VSS (power), 26 BYPASS (in), 27 SDA (io), 28 SCL (io), 29 IO2 (io), 30 IO1 (io), 31 AUX2 (io), 32 AUX1 (io), 33 A1/RST (in), 34 A2/CK (in), 35 CLK (in), 36 INT, 37 EVCC (power), 38 CVSSB (power), 39 LIB (power), 40 CVCCB (power), 41 CVCCB (power), 42 ~{RESET} (io), 43 CPRES2 (in), 44 CVCCINB (power), 45 CVCC2 (power), 46 CRST2 (out), 47 CCLK2 (out), 48 CIO2 (io), 49 Thermal Pad (power)

## AT83C26-PLTUL
designator U?
Multiple Smart Card Reader Interface With Power Management, Industrial, 48-Pin QFN Pkg, Tray, Pb-Free; DatasheetVersion: revD, Feb-2007; PackageVersion: 29/03/2011; PackageReference: VQFN48; PackageDescription: 48-Pin Quad Flat No-Lead, Punched, 7 x 7 x 0.9 mm Body, 0.5 mm Pitch, Exposed Pad; Code_JEDEC: MO-220; ComponentLink1Description: Manufacturer URL; ComponentLink1URL: http://www.atmel.com/; ComponentLink2Description: Datasheet; ComponentLink2URL: http://www.atmel.com/dyn/resources/prod_documents/doc7511.pdf
footprint VQFN48_N (QFN, 48-Leads, Body 7x7mm, Pitch 0.5mm, Thermal Pad 5.3x5.3mm, IPC Medium Density)
footprint VQFN48_L (QFN, 48-Leads, Body 7x7mm, Pitch 0.5mm, Thermal Pad 5.3x5.3mm, IPC High Density)
footprint VQFN48_M (QFN, 48-Leads, Body 7x7mm, Pitch 0.5mm, Thermal Pad 5.3x5.3mm, IPC Low Density)
pins: 1 CVCC3 (power), 2 CRST3/CC82 (io), 3 CCLK3 (out), 4 CIO3/CC42 (io), 5 CVCC4 (power), 6 CRST4 (out), 7 CCLK4 (out), 8 CIO4 (io), 9 CIO5 (io), 10 CCLK5 (out), 11 CRST5 (out), 12 CVCC5 (power), 13 CC81 (io), 14 CC41 (io), 15 CIO1 (io), 16 CCLK1 (out), 17 CRST1 (out), 18 CVCCIN1 (power), 19 CPRES1 (in), 20 CVCC1 (power), 21 CVCC1 (power), 22 LIA (power), 23 CVSS1 (power), 24 VCC (power), 25 VSS (power), 26 BYPASS (in), 27 SDA (io), 28 SCL (io), 29 IO2 (io), 30 IO1 (io), 31 AUX2 (io), 32 AUX1 (io), 33 A1/RST (in), 34 A2/CK (in), 35 CLK (in), 36 INT, 37 EVCC (power), 38 CVSSB (power), 39 LIB (power), 40 CVCCB (power), 41 CVCCB (power), 42 ~{RESET} (io), 43 CPRES2 (in), 44 CVCCINB (power), 45 CVCC2 (power), 46 CRST2 (out), 47 CCLK2 (out), 48 CIO2 (io), 49 Thermal Pad (power)